# Altium schematic symbol library Resistor SMD.SchLib: 98 symbols (part 1 of 2)
Pins are listed as number, name and electrical type; pins without a type are passive.

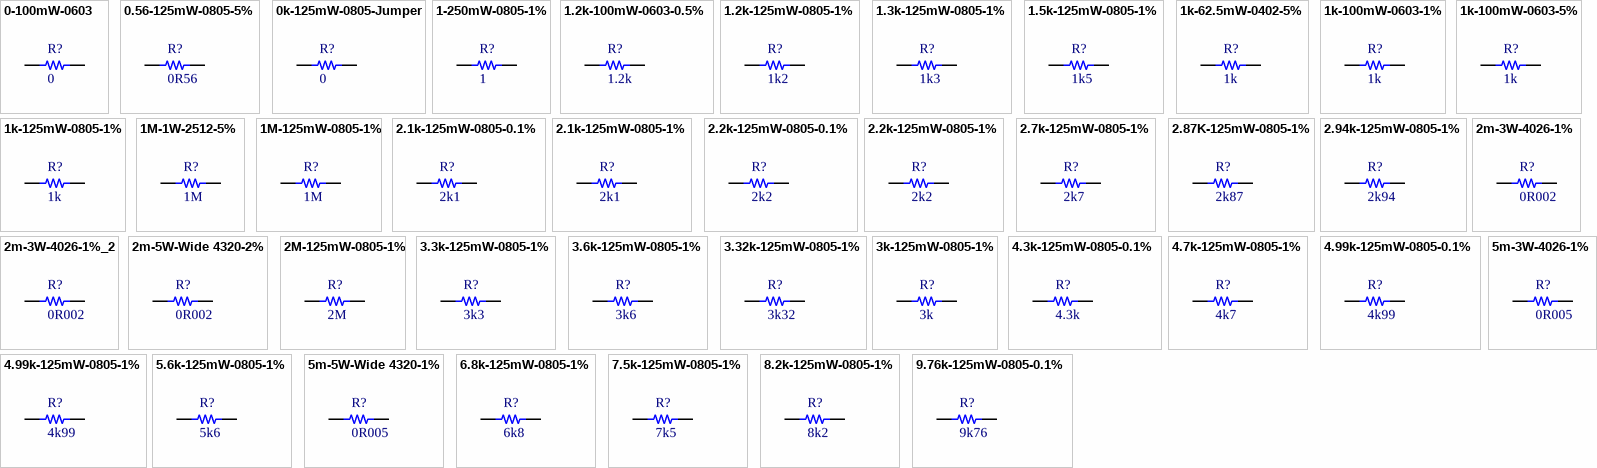
[diagram p0: symbols 0-100mW-0603 to 9.76k-125mW-0805-0.1%]

## 0-100mW-0603
designator R?, comment 0
Resistor, 0 Ohm, 100mW Power Rating, 0603 Package; ManufacturerName: Yageo; ManufacturerReference: AC0603JR-070RL; DistributorName: Digikey; DistributorReference: 311-0.0LECT-ND; InventoryNumber: *; Value: 0; PowerRating: 100mW; PackageReference: 0603 (1608 Metric); Category: Resistor
footprint RES 0603/1608 YAGEO (Chip Capacitor, 2-Leads, Body 1.60x0.80mm, IPC High Density)
pins: 1, 2

## 0.56-125mW-0805-5%
designator R?, comment 0R56
Resistor, 0.56, 125mW Power Rating, 0805 Package; ManufacturerName: CTS Resistor Products; ManufacturerReference: 73L3R56J; InventoryNumber: RES002; Value: 0.56 Ohm; PowerRating: 125mWatt; Other: 5%; DistributorName: Digikey; DistributorReference: 73L3R56JCT-ND; PackageReference: 0805; Category: Resistor
footprint RES 0805/2012 (Chip Resistor, 2-Leads, Body 2.00x1.25mm, IPC Medium Density)
footprint RES 0805/2012 RF (Chip Resistor, 2-Leads, Body 2.00x1.25mm, IPC High Density)
pins: 1, 2

## 0k-125mW-0805-Jumper
designator R?, comment 0
Resistor, 0 , 125mW Power Rating, 0805 Package; ManufacturerName: Rohm Semiconductor; ManufacturerReference: MCR10EZPJ000; InventoryNumber: RES001; Value: 0 Ohm; PowerRating: 125mWatt; Other: JUMPER; DistributorName: Digikey; DistributorReference: RHM0.0ARCT-ND; PackageReference: 0805; Category: Resistor
footprint RES 0805/2012 (Chip Resistor, 2-Leads, Body 2.00x1.25mm, IPC Medium Density)
footprint RES 0805/2012 RF (Chip Resistor, 2-Leads, Body 2.00x1.25mm, IPC High Density)
pins: 1, 2

## 1-250mW-0805-1%
designator R?, comment 1
Resistor, 1, 250mW Power Rating, 0805 Package; ManufacturerName: Rohm Semiconductor; ManufacturerReference: MCR10EZHFL1R00; InventoryNumber: RES003; Value: 1 Ohm; PowerRating: 250mWatt; Other: 1%; DistributorName: Digikey; DistributorReference: RHM1.00CCT-ND; PackageReference: 0805; Category: Resistor
footprint RES 0805/2012 (Chip Resistor, 2-Leads, Body 2.00x1.25mm, IPC Medium Density)
footprint RES 0805/2012 RF (Chip Resistor, 2-Leads, Body 2.00x1.25mm, IPC High Density)
pins: 1, 2

## 1.2k-100mW-0603-0.5%
designator R?, comment 1.2k
Resistor, 1.2k, 0.1W Power Rating, 0603/1608 Package; ManufacturerName: Yageo; ManufacturerReference: RT0603DRE071K2L; Value: 1.2k Ohm; Other: 0.5%; DistributorName: Digikey; DistributorReference: 311-2461-2-ND; InventoryNumber: *; PowerRating: 0.1W; PackageReference: 0603 (1608 Metric); Category: Resistor
footprint RES 0603/1608 YAGEO (Chip Capacitor, 2-Leads, Body 1.60x0.80mm, IPC High Density)
pins: 1, 2

## 1.2k-125mW-0805-1%
designator R?, comment 1k2
Resistor, 1.2k, 125mW Power Rating, 0805 Package; ManufacturerName: Rohm Semiconductor; ManufacturerReference: MCR10EZHF1201; InventoryNumber: RES021; Value: 1.2k Ohm; PowerRating: 125mWatt; Other: 1%; DistributorName: Digikey; DistributorReference: RHM1.20KCTR-ND; PackageReference: 0805; Category: Resistor
footprint RES 0805/2012 (Chip Resistor, 2-Leads, Body 2.00x1.25mm, IPC Medium Density)
footprint RES 0805/2012 RF (Chip Resistor, 2-Leads, Body 2.00x1.25mm, IPC High Density)
pins: 1, 2

## 1.3k-125mW-0805-1%
designator R?, comment 1k3
Resistor, 1.3k, 125mW Power Rating, 0805 Package; ManufacturerName: Rohm Semiconductor; ManufacturerReference: MCR10EZHF1301; InventoryNumber: RES022; Value: 1.3k Ohm; PowerRating: 125mWatt; Other: 1%; DistributorName: Digikey; DistributorReference: RHM1.30KCTR-ND; PackageReference: 0805; Category: Resistor
footprint RES 0805/2012 (Chip Resistor, 2-Leads, Body 2.00x1.25mm, IPC Medium Density)
footprint RES 0805/2012 RF (Chip Resistor, 2-Leads, Body 2.00x1.25mm, IPC High Density)
pins: 1, 2

## 1.5k-125mW-0805-1%
designator R?, comment 1k5
Resistor, 1.5k, 125mW Power Rating, 0805 Package; ManufacturerName: Vishay Dale; ManufacturerReference: CRCW08051K50FKEA; InventoryNumber: RES023; Value: 1.5k Ohm; PowerRating: 125mWatt; Other: 1%; DistributorName: Digikey; DistributorReference: 541-1.50KCCT-ND; PackageReference: 0805; Category: Resistor
footprint RES 0805/2012 (Chip Resistor, 2-Leads, Body 2.00x1.25mm, IPC Medium Density)
footprint RES 0805/2012 RF (Chip Resistor, 2-Leads, Body 2.00x1.25mm, IPC High Density)
pins: 1, 2

## 1k-62.5mW-0402-5%
designator R?, comment 1k
Resistor, 1k, 62.5mW Power Rating, 0402 Package; ManufacturerName: Yageo; ManufacturerReference: ERA-6AEB301V; InventoryNumber: RES204; Value: 1k Ohm; PowerRating: 62.5mWatt; Other: 5%; DistributorName: Digikey; DistributorReference: 311-1.0KJRCT-ND; PackageReference: 0402; Category: Resistor
footprint RES 0402/1005 (Chip Resistor, 2-Leads, Body 1.0x0.5mm, IPC Medium Density)
footprint RES 0402/1005 RF (Chip Resistor, 2-Leads, Body 1.0x0.5mm, IPC High Density)
pins: 1, 2

## 1k-100mW-0603-1%
designator R?, comment 1k
Resistor, 1k, 100mW Power Rating, 0603 Package; ManufacturerName: Yageo; ManufacturerReference: ERA-6AEB101V; InventoryNumber: RES203; Value: 1k Ohm; PowerRating: 100mWatt; Other: 5%; DistributorName: Digikey; DistributorReference: 311-1.0KGRCT-ND; PackageReference: 0603
footprint RES 0603/1608 (Chip Resistor, 2-Leads, Body 1.60x0.80mm, IPC Medium Density)
footprint RES 0603/1608 RF (Chip Resistor, 2-Leads, Body 1.60x0.80mm, IPC High Density)
pins: 1, 2

## 1k-100mW-0603-5%
designator R?, comment 1k
Resistor, 1k, 100mW Power Rating, 0603 Package; ManufacturerName: Yageo; ManufacturerReference: ERA-6AEB101V; InventoryNumber: RES203; Value: 1k Ohm; PowerRating: 100mWatt; Other: 5%; DistributorName: Digikey; DistributorReference: 311-1.0KGRCT-ND; PackageReference: 0603; Category: Resistor
footprint RES 0603/1608 (Chip Resistor, 2-Leads, Body 1.60x0.80mm, IPC Medium Density)
footprint RES 0603/1608 RF (Chip Resistor, 2-Leads, Body 1.60x0.80mm, IPC High Density)
pins: 1, 2

## 1k-125mW-0805-1%
designator R?, comment 1k
Resistor, 1k, 125mW Power Rating, 0805 Package; ManufacturerName: Rohm Semiconductor; ManufacturerReference: MCR10EZHF1001; InventoryNumber: RES020; Value: 1k Ohm; PowerRating: 125mWatt; Other: 1%; DistributorName: Digikey; DistributorReference: RHM1.00KCCT-ND; PackageReference: 0805; Category: Resistor
footprint RES 0805/2012 (Chip Resistor, 2-Leads, Body 2.00x1.25mm, IPC Medium Density)
footprint RES 0805/2012 RF (Chip Resistor, 2-Leads, Body 2.00x1.25mm, IPC High Density)
pins: 1, 2

## 1M-1W-2512-5%
designator R?, comment 1M
Resistor, 1M, 1W Power Rating, 2512 Package; ManufacturerName: TE Connectivity Passive Product; ManufacturerReference: 35201M0JT; InventoryNumber: RES115; Value: 1M Ohm; PowerRating: 1Watt; Other: 5%; DistributorName: Digikey; DistributorReference: A102508CT-ND; PackageReference: 2512; Category: Resistor
footprint RES 2512/6432 (Chip Resistor, 2-Leads, Body 6.40x3.20mm, IPC High Density)
pins: 1, 2

## 1M-125mW-0805-1%
designator R?, comment 1M
Resistor, 1M, 125mW Power Rating, 0805 Package; ManufacturerName: Vishay Dale; ManufacturerReference: CRCW08051M00FKEA; InventoryNumber: RES101; Value: 1M Ohm; PowerRating: 125mWatt; Other: 1%; DistributorName: Digikey; DistributorReference: 541-1.00MCCT-ND; PackageReference: 0805; Category: Resistor
footprint RES 0805/2012 (Chip Resistor, 2-Leads, Body 2.00x1.25mm, IPC Medium Density)
footprint RES 0805/2012 RF (Chip Resistor, 2-Leads, Body 2.00x1.25mm, IPC High Density)
pins: 1, 2

## 2.1k-125mW-0805-0.1%
designator R?, comment 2k1
Resistor, 2.1k, 125mW Power Rating, 0805 Package; ManufacturerName: Panasonic Electronic Components; ManufacturerReference: ERA-6AEB2101V; InventoryNumber: RES105; Value: 2.1k Ohm; PowerRating: 125mWatt; Other: 0.1% 25ppm/C; DistributorName: Digikey; DistributorReference: P2.1KDACT-ND; PackageReference: 0805; Category: Resistor
footprint RES 0805/2012 (Chip Resistor, 2-Leads, Body 2.00x1.25mm, IPC Medium Density)
footprint RES 0805/2012 RF (Chip Resistor, 2-Leads, Body 2.00x1.25mm, IPC High Density)
pins: 1, 2

## 2.1k-125mW-0805-1%
designator R?, comment 2k1
Resistor, 2.1k, 125mW Power Rating, 0805 Package; ManufacturerName: Rohm Semiconductor; ManufacturerReference: MCR10EZHF2101; InventoryNumber: RES024; Value: 2.1k Ohm; PowerRating: 125mWatt; Other: 1%; DistributorName: Digikey; DistributorReference: RHM2.10KCTR-ND; PackageReference: 0805; Category: Resistor
footprint RES 0805/2012 (Chip Resistor, 2-Leads, Body 2.00x1.25mm, IPC Medium Density)
footprint RES 0805/2012 RF (Chip Resistor, 2-Leads, Body 2.00x1.25mm, IPC High Density)
pins: 1, 2

## 2.2k-125mW-0805-0.1%
designator R?, comment 2k2
Resistor, 2.2k, 125mW Power Rating, 0805 Package; ManufacturerName: Panasonic Electronic Components; ManufacturerReference: ERA-6AEB222V; InventoryNumber: RES106; Value: 2.2k Ohm; PowerRating: 125mWatt; Other: 0.1% 25ppm/C; DistributorName: Digikey; DistributorReference: P2.2KDACT-ND; PackageReference: 0805; Category: Resistor
footprint RES 0805/2012 (Chip Resistor, 2-Leads, Body 2.00x1.25mm, IPC Medium Density)
footprint RES 0805/2012 RF (Chip Resistor, 2-Leads, Body 2.00x1.25mm, IPC High Density)
pins: 1, 2

## 2.2k-125mW-0805-1%
designator R?, comment 2k2
Resistor, 2.2k, 125mW Power Rating, 0805 Package; ManufacturerName: Rohm Semiconductor; ManufacturerReference: MCR10EZPF2201; InventoryNumber: RES025; Value: 2.2k Ohm; PowerRating: 125mWatt; Other: 1%; DistributorName: Digikey; DistributorReference: RHM2.20KCRCT-ND; PackageReference: 0805; Category: Resistor
footprint RES 0805/2012 (Chip Resistor, 2-Leads, Body 2.00x1.25mm, IPC Medium Density)
footprint RES 0805/2012 RF (Chip Resistor, 2-Leads, Body 2.00x1.25mm, IPC High Density)
pins: 1, 2

## 2.7k-125mW-0805-1%
designator R?, comment 2k7
Resistor, 2.7k, 125mW Power Rating, 0805 Package; ManufacturerName: Rohm Semiconductor; ManufacturerReference: MCR10EZPF2701; InventoryNumber: RES026; Value: 2.7k Ohm; PowerRating: 125mWatt; Other: 1%; DistributorName: Digikey; DistributorReference: RHM2.70KCRTR-ND; PackageReference: 0805; Category: Resistor
footprint RES 0805/2012 (Chip Resistor, 2-Leads, Body 2.00x1.25mm, IPC Medium Density)
footprint RES 0805/2012 RF (Chip Resistor, 2-Leads, Body 2.00x1.25mm, IPC High Density)
pins: 1, 2

## 2.87K-125mW-0805-1%
designator R?, comment 2k87
Resistor, 2.87k, 125mW Power Rating, 0805 Package; ManufacturerName: Vishay Dale; ManufacturerReference: ERA-6AEB2101V; InventoryNumber: RES205; Value: 2.87k Ohm; PowerRating: 125mWatt; Other: 1%; DistributorName: Digikey; DistributorReference: 541-2.87KCCT-ND; PackageReference: 0805; Category: Resistor
footprint RES 0805/2012 (Chip Resistor, 2-Leads, Body 2.00x1.25mm, IPC Medium Density)
footprint RES 0805/2012 RF (Chip Resistor, 2-Leads, Body 2.00x1.25mm, IPC High Density)
pins: 1, 2

## 2.94k-125mW-0805-1%
designator R?, comment 2k94
Resistor, 2.94k, 125mW Power Rating, 0805 Package; ManufacturerName: Rohm Semiconductor; ManufacturerReference: MCR10EZHF2941; InventoryNumber: RES027; Value: 2.94k Ohm; PowerRating: 125mWatt; Other: 1%; DistributorName: Digikey; DistributorReference: RHM2.94KCTR-ND; PackageReference: 0805; Category: Resistor
footprint RES 0805/2012 (Chip Resistor, 2-Leads, Body 2.00x1.25mm, IPC Medium Density)
footprint RES 0805/2012 RF (Chip Resistor, 2-Leads, Body 2.00x1.25mm, IPC High Density)
pins: 1, 2

## 2m-3W-4026-1%
designator R?, comment 0R002
Resistor, 2m, 3W Power Rating, 4026 Package; ManufacturerName: Vishay; ManufacturerReference: WSL40262L000FEB; InventoryNumber: RES121; Value: 2m Ohm; PowerRating: 3Watt; Other: 1%; DistributorName: Digikey; DistributorReference: WSLR-.002CT-ND; PackageReference: 4026; Category: Resistor
footprint RES 4026/10166 VISHAY
pins: 1, 2

## 2m-3W-4026-1%_2
designator R?, comment 0R002
Resistor, 2m, 3W Power Rating, 4026 Package; ManufacturerName: Vishay; ManufacturerReference: WSL40262L000FEB; InventoryNumber: RES213; Value: 2m Ohm; PowerRating: 3Watt; Other: 1%, Chip resistor; DistributorName: Digikey; DistributorReference: WSLR-.002CT-ND; PackageReference: 4026; Category: Resistor
footprint RES 4026/10166 VISHAY
pins: 1, 2

## 2m-5W-Wide 4320-2%
designator R?, comment 0R002
Resistor, 2m, 5W Power Rating, Wide 4320 Package; ManufacturerName: Ohmite; ManufacturerReference: FCSL110R002GER; InventoryNumber: RES206; Value: 2m Ohm; PowerRating: 5Watt; Other: 2%; DistributorName: Digikey; DistributorReference: FCSL110R002GERCT-ND; PackageReference: Wide 4320; Category: Resistor
footprint RES WIDE 4320/ 11050 Ohmite (Chip Resistor, 2-Leads, Body 5.00x11.00mm, IPC High Density)
pins: 1, 2

## 2M-125mW-0805-1%
designator R?, comment 2M
Resistor, 2M, 125mW Power Rating, 0805 Package; ManufacturerName: Rohm Semiconductor; ManufacturerReference: KTR10EZPF2004; InventoryNumber: RES102; Value: 2M Ohm; PowerRating: 125mWatt; Other: 1%; DistributorName: Digikey; DistributorReference: RHM2.00MAHCT-ND; PackageReference: 0805; Category: Resistor
footprint RES 0805/2012 (Chip Resistor, 2-Leads, Body 2.00x1.25mm, IPC Medium Density)
footprint RES 0805/2012 RF (Chip Resistor, 2-Leads, Body 2.00x1.25mm, IPC High Density)
pins: 1, 2

## 3.3k-125mW-0805-1%
designator R?, comment 3k3
Resistor, 3.3k, 125mW Power Rating, 0805 Package; ManufacturerName: Rohm Semiconductor; ManufacturerReference: MCR10EZHF3301; InventoryNumber: RES028; Value: 3.3k Ohm; PowerRating: 125mWatt; Other: 1%; DistributorName: Digikey; DistributorReference: RHM3.30KCTR-ND; PackageReference: 0805; Category: Resistor
footprint RES 0805/2012 (Chip Resistor, 2-Leads, Body 2.00x1.25mm, IPC Medium Density)
footprint RES 0805/2012 RF (Chip Resistor, 2-Leads, Body 2.00x1.25mm, IPC High Density)
pins: 1, 2

## 3.6k-125mW-0805-1%
designator R?, comment 3k6
Resistor, 3.6k, 125mW Power Rating, 0805 Package; ManufacturerName: Rohm Semiconductor; ManufacturerReference: MCR10EZPF3601; InventoryNumber: RES030; Value: 3.6k Ohm; PowerRating: 125mWatt; Other: 1%; DistributorName: Digikey; DistributorReference: RHM3.60KCRCT-ND; PackageReference: 0805; Category: Resistor
footprint RES 0805/2012 (Chip Resistor, 2-Leads, Body 2.00x1.25mm, IPC Medium Density)
footprint RES 0805/2012 RF (Chip Resistor, 2-Leads, Body 2.00x1.25mm, IPC High Density)
pins: 1, 2

## 3.32k-125mW-0805-1%
designator R?, comment 3k32
Resistor, 3.32k, 125mW Power Rating, 0805 Package; ManufacturerName: Rohm Semiconductor; ManufacturerReference: MCR10EZPF3321; InventoryNumber: RES029; Value: 3.32k Ohm; PowerRating: 125mWatt; Other: 1%; DistributorName: Digikey; DistributorReference: RHM3.32KCRTR-ND; PackageReference: 0805; Category: Resistor
footprint RES 0805/2012 (Chip Resistor, 2-Leads, Body 2.00x1.25mm, IPC Medium Density)
footprint RES 0805/2012 RF (Chip Resistor, 2-Leads, Body 2.00x1.25mm, IPC High Density)
pins: 1, 2

## 3k-125mW-0805-1%
designator R?, comment 3k
Resistor, 3k, 125mW Power Rating, 0805 Package; ManufacturerName: Panasonic Electronic Components; ManufacturerReference: ERJ-6ENF3001V; InventoryNumber: RES123; Value: 3k Ohm; PowerRating: 125mWatt; Other: 1%; DistributorName: Digikey; DistributorReference: P3.0KCCT-ND; PackageReference: 0805; Category: Resistor
footprint RES 0805/2012 (Chip Resistor, 2-Leads, Body 2.00x1.25mm, IPC Medium Density)
footprint RES 0805/2012 RF (Chip Resistor, 2-Leads, Body 2.00x1.25mm, IPC High Density)
pins: 1, 2

## 4.3k-125mW-0805-0.1%
designator R?, comment 4.3k
Resistor, 4.3k, 125mW Power Rating, 0805 Package; ManufacturerName: Panasonic Electronic Components; ManufacturerReference: ERA-6AEB432V; InventoryNumber: RES107; Value: 4.3k Ohm; PowerRating: 125mWatt; Other: 0.1% 25ppm/C; DistributorName: Digikey; DistributorReference: P4.3KDACT-ND; PackageReference: 0805; Category: Resistor
footprint RES 0805/2012 (Chip Resistor, 2-Leads, Body 2.00x1.25mm, IPC Medium Density)
footprint RES 0805/2012 RF (Chip Resistor, 2-Leads, Body 2.00x1.25mm, IPC High Density)
pins: 1, 2

## 4.7k-125mW-0805-1%
designator R?, comment 4k7
Resistor, 4.7k, 125mW Power Rating, 0805 Package; ManufacturerName: Rohm Semiconductor; ManufacturerReference: MCR10ERTF4701; InventoryNumber: RES126; Value: 4.7k Ohm; PowerRating: 125mWatt; Other: 1%; DistributorName: Digikey; DistributorReference: RHM4.70KCHCT-ND; PackageReference: 0805; Category: Resistor
footprint RES 0805/2012 (Chip Resistor, 2-Leads, Body 2.00x1.25mm, IPC Medium Density)
footprint RES 0805/2012 RF (Chip Resistor, 2-Leads, Body 2.00x1.25mm, IPC High Density)
pins: 1, 2

## 4.99k-125mW-0805-0.1%
designator R?, comment 4k99
Resistor, 4.99k, 125mW Power Rating, 0805 Package; ManufacturerName: Vishay Dale; ManufacturerReference: ERA-6AEB4991V; InventoryNumber: RES108; Value: 4.99k Ohm; PowerRating: 125mWatt; Other: 0.1% 25ppm/C; DistributorName: Digikey; DistributorReference: P4.99KDACT-ND; PackageReference: 0805; Category: Resistor
footprint RES 0805/2012 (Chip Resistor, 2-Leads, Body 2.00x1.25mm, IPC Medium Density)
footprint RES 0805/2012 RF (Chip Resistor, 2-Leads, Body 2.00x1.25mm, IPC High Density)
pins: 1, 2

## 4.99k-125mW-0805-1%
designator R?, comment 4k99
Resistor, 4.99k, 125mW Power Rating, 0805 Package; ManufacturerName: Rohm Semiconductor; ManufacturerReference: MCR10EZPF4991; InventoryNumber: RES031; Value: 4.99k Ohm; PowerRating: 125mWatt; Other: 1%; DistributorName: Digikey; DistributorReference: RHM4.99KCRCT-ND; PackageReference: 0805; Category: Resistor
footprint RES 0805/2012 (Chip Resistor, 2-Leads, Body 2.00x1.25mm, IPC Medium Density)
footprint RES 0805/2012 RF (Chip Resistor, 2-Leads, Body 2.00x1.25mm, IPC High Density)
pins: 1, 2

## 5.6k-125mW-0805-1%
designator R?, comment 5k6
Resistor, 5.6k, 125mW Power Rating, 0805 Package; ManufacturerName: Stackpole Electronics Inc.; ManufacturerReference: RMCF0805FT5K60; InventoryNumber: RES032; Value: 5.6k Ohm; PowerRating: 125mWatt; Other: 1%; DistributorName: Digikey; DistributorReference: RMCF0805FT5K60CT-ND; PackageReference: 0805; Category: Resistor
footprint RES 0805/2012 (Chip Resistor, 2-Leads, Body 2.00x1.25mm, IPC Medium Density)
footprint RES 0805/2012 RF (Chip Resistor, 2-Leads, Body 2.00x1.25mm, IPC High Density)
pins: 1, 2

## 5m-3W-4026-1%
designator R?, comment 0R005
Resistor, 5m, 3W Power Rating, 4026 Package; ManufacturerName: Vishay Dale; ManufacturerReference: WSL40265L000FEB; InventoryNumber: RES122; Value: 5m Ohm; PowerRating: 3Watt; Other: 1%; DistributorName: Digikey; DistributorReference: WSLR-.005CT-ND; PackageReference: 4026; Category: Resistor
footprint RES 4026/10166 VISHAY
pins: 1, 2

## 5m-5W-Wide 4320-1%
designator R?, comment 0R005
Resistor, 5m, 5W Power Rating, Wide 4320 Package; ManufacturerName: Ohmite; ManufacturerReference: FCSL110R005FER; InventoryNumber: RES207; Value: 5m Ohm; PowerRating: 5Watt; Other: 1%; DistributorName: Digikey; DistributorReference: FCSL110R005FERCT-ND; PackageReference: Wide 4320; Category: Resistor
footprint RES WIDE 4320/ 11050 Ohmite (Chip Resistor, 2-Leads, Body 5.00x11.00mm, IPC High Density)
pins: 1, 2

## 6.8k-125mW-0805-1%
designator R?, comment 6k8
Resistor, 6.8k, 125mW Power Rating, 0805 Package; ManufacturerName: Rohm Semiconductor; ManufacturerReference: MCR10EZHF6801; InventoryNumber: RES033; Value: 6.8k Ohm; PowerRating: 125mWatt; Other: 1%; DistributorName: Digikey; DistributorReference: RHM6.80KCCT-ND; PackageReference: 0805; Category: Resistor
footprint RES 0805/2012 (Chip Resistor, 2-Leads, Body 2.00x1.25mm, IPC Medium Density)
footprint RES 0805/2012 RF (Chip Resistor, 2-Leads, Body 2.00x1.25mm, IPC High Density)
pins: 1, 2

## 7.5k-125mW-0805-1%
designator R?, comment 7k5
Resistor, 7.5k, 125mW Power Rating, 0805 Package; ManufacturerName: Stackpole Electronics Inc.; ManufacturerReference: RMCF0805FT7K50; InventoryNumber: RES034; Value: 7.5k Ohm; PowerRating: 125mWatt; Other: 1%; DistributorName: Digikey; DistributorReference: RMCF0805FT7K50CT-ND; PackageReference: 0805; Category: Resistor
footprint RES 0805/2012 (Chip Resistor, 2-Leads, Body 2.00x1.25mm, IPC Medium Density)
footprint RES 0805/2012 RF (Chip Resistor, 2-Leads, Body 2.00x1.25mm, IPC High Density)
pins: 1, 2

## 8.2k-125mW-0805-1%
designator R?, comment 8k2
Resistor, 8.2k, 125mW Power Rating, 0805 Package; ManufacturerName: Rohm Semiconductor; ManufacturerReference: MCR10EZHF8201; InventoryNumber: RES035; Value: 8.2k Ohm; PowerRating: 125mWatt; Other: 1%; DistributorName: Digikey; DistributorReference: RHM8.20KCTR-ND; PackageReference: 0805; Category: Resistor
footprint RES 0805/2012 (Chip Resistor, 2-Leads, Body 2.00x1.25mm, IPC Medium Density)
footprint RES 0805/2012 RF (Chip Resistor, 2-Leads, Body 2.00x1.25mm, IPC High Density)
pins: 1, 2

## 9.76k-125mW-0805-0.1%
designator R?, comment 9k76
Resistor, 9.76k, 125mW Power Rating, 0805 Package; ManufacturerName: Panasonic Electronic Components; ManufacturerReference: ERA-6AEB9761V; InventoryNumber: RES109; Value: 9.76k Ohm; PowerRating: 125mWatt; Other: 0.1% 25ppm/C; DistributorName: Digikey; DistributorReference: P9.76KDACT-ND; PackageReference: 0805; Category: Resistor
footprint RES 0805/2012 (Chip Resistor, 2-Leads, Body 2.00x1.25mm, IPC Medium Density)
footprint RES 0805/2012 RF (Chip Resistor, 2-Leads, Body 2.00x1.25mm, IPC High Density)
pins: 1, 2

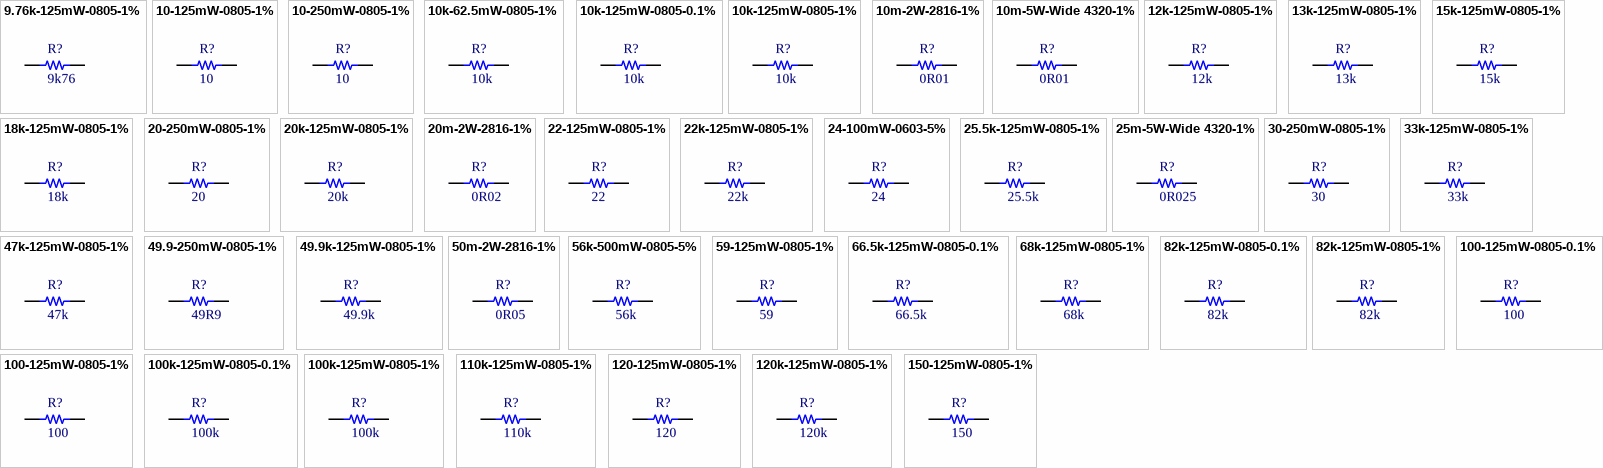
[diagram p1: symbols 9.76k-125mW-0805-1% to 150-125mW-0805-1%]

## 9.76k-125mW-0805-1%
designator R?, comment 9k76
Resistor, 9.76k, 125mW Power Rating, 0805 Package; ManufacturerName: Vishay Dale; ManufacturerReference: CRCW08059K76FKEA; InventoryNumber: RES036; Value: 9.76k Ohm; PowerRating: 125mWatt; Other: 1%; DistributorName: Digikey; DistributorReference: 541-9.76KCCT-ND; PackageReference: 0805; Category: Resistor
footprint RES 0805/2012 (Chip Resistor, 2-Leads, Body 2.00x1.25mm, IPC Medium Density)
footprint RES 0805/2012 RF (Chip Resistor, 2-Leads, Body 2.00x1.25mm, IPC High Density)
pins: 1, 2

## 10-125mW-0805-1%
designator R?, comment 10
Resistor, 10, 125mW Power Rating, 0805 Package; ManufacturerName: Rohm Semiconductor; ManufacturerReference: MCR10EZHF10R0; InventoryNumber: RES005; Value: 10 Ohm; PowerRating: 125mWatt; Other: 1%; DistributorName: Digikey; DistributorReference: RHM10.0CCT-ND; PackageReference: 0805; Category: Resistor
footprint RES 0805/2012 (Chip Resistor, 2-Leads, Body 2.00x1.25mm, IPC Medium Density)
footprint RES 0805/2012 RF (Chip Resistor, 2-Leads, Body 2.00x1.25mm, IPC High Density)
pins: 1, 2

## 10-250mW-0805-1%
designator R?, comment 10
Resistor, 10, 250mW Power Rating, 0805 Package; ManufacturerName: Stackpole Electronics Inc.; ManufacturerReference: RNCP0805FTD10R0; InventoryNumber: RES004; Value: 10 Ohm; PowerRating: 250mWatt; Other: 1%; DistributorName: Digikey; DistributorReference: RNCP0805FTD10R0CT-ND; PackageReference: 0805; Category: Resistor
footprint RES 0805/2012 (Chip Resistor, 2-Leads, Body 2.00x1.25mm, IPC Medium Density)
footprint RES 0805/2012 RF (Chip Resistor, 2-Leads, Body 2.00x1.25mm, IPC High Density)
pins: 1, 2

## 10k-62.5mW-0805-1%
designator R?, comment 10k
Resistor, 10k, 62.5mW Power Rating, 0805 Package; ManufacturerName: Rohm Semiconductor; ManufacturerReference: MCR01MRTF1002; InventoryNumber: RES037; Value: 10k Ohm; PowerRating: 62.5mWatt; Other: 1%; DistributorName: Digikey; DistributorReference: RHM10.0KCDDKR-ND; PackageReference: 0805; Category: Resistor
footprint RES 0805/2012 (Chip Resistor, 2-Leads, Body 2.00x1.25mm, IPC Medium Density)
footprint RES 0805/2012 RF (Chip Resistor, 2-Leads, Body 2.00x1.25mm, IPC High Density)
pins: 1, 2

## 10k-125mW-0805-0.1%
designator R?, comment 10k
Resistor, 10k, 125mW Power Rating, 0805 Package; ManufacturerName: Panasonic Electronic Components; ManufacturerReference: ERA-6AEB103V; InventoryNumber: RES110; Value: 10k Ohm; PowerRating: 125mWatt; Other: 0.1% 25ppm/C; DistributorName: Digikey; DistributorReference: P10KDACT-ND; PackageReference: 0805; Category: Resistor
footprint RES 0805/2012 (Chip Resistor, 2-Leads, Body 2.00x1.25mm, IPC Medium Density)
footprint RES 0805/2012 RF (Chip Resistor, 2-Leads, Body 2.00x1.25mm, IPC High Density)
pins: 1, 2

## 10k-125mW-0805-1%
designator R?, comment 10k
Resistor, 10k, 125mW Power Rating, 0805 Package; ManufacturerName: Rohm Semiconductor; ManufacturerReference: MCR10EZPF1002; InventoryNumber: RES038; Value: 10k Ohm; PowerRating: 125mWatt; Other: 1%; DistributorName: Digikey; DistributorReference: RHM10.0KCRCT-ND; PackageReference: 0805; Category: Resistor
footprint RES 0805/2012 (Chip Resistor, 2-Leads, Body 2.00x1.25mm, IPC Medium Density)
footprint RES 0805/2012 RF (Chip Resistor, 2-Leads, Body 2.00x1.25mm, IPC High Density)
pins: 1, 2

## 10m-2W-2816-1%
designator R?, comment 0R01
Resistor, 10m, 2W Power Rating, 2816 Package; ManufacturerName: Vishay Dale; ManufacturerReference: WSL2816R0100FEH; InventoryNumber: RES208; Value: 10m Watt; PowerRating: 2Watt; Other: 1%; DistributorName: Digikey; DistributorReference: WSLK-.01CT-ND; PackageReference: 2816; Category: Resistor
footprint RES 2816/7142 VISHAY (Chip Resistor, 2-Leads, Body 7.10x4.20mm, IPC High Density)
pins: 1, 2

## 10m-5W-Wide 4320-1%
designator R?, comment 0R01
Resistor, 10m, 5W Power Rating, Wide 4320 Package; ManufacturerName: Ohmite; ManufacturerReference: FCSL110R010FER; InventoryNumber: RES209; Value: 10m Ohm; PowerRating: 5Watt; Other: 1%; DistributorName: Digikey; DistributorReference: FCSL110R010FERCT-ND; PackageReference: Wide 4320; Category: Resistor
footprint RES WIDE 4320/ 11050 Ohmite (Chip Resistor, 2-Leads, Body 5.00x11.00mm, IPC High Density)
pins: 1, 2

## 12k-125mW-0805-1%
designator R?, comment 12k
Resistor, 12k, 125mW Power Rating, 0805 Package; ManufacturerName: Rohm Semiconductor; ManufacturerReference: MCR10EZHF1202; InventoryNumber: RES039; Value: 12k Ohm; PowerRating: 125mWatt; Other: 1%; DistributorName: Digikey; DistributorReference: RHM12.0KCCT-ND; PackageReference: 0805; Category: Resistor
footprint RES 0805/2012 (Chip Resistor, 2-Leads, Body 2.00x1.25mm, IPC Medium Density)
footprint RES 0805/2012 RF (Chip Resistor, 2-Leads, Body 2.00x1.25mm, IPC High Density)
pins: 1, 2

## 13k-125mW-0805-1%
designator R?, comment 13k
Resistor, 13k, 125mW Power Rating, 0805 Package; ManufacturerName: Stackpole Electronics Inc.; ManufacturerReference: RMCF0805FT13K0; InventoryNumber: RES040; Value: 13k Ohm; PowerRating: 125mWatt; Other: 1%; DistributorName: Digikey; DistributorReference: RMCF0805FT13K0CT-ND; PackageReference: 0805; Category: Resistor
footprint RES 0805/2012 (Chip Resistor, 2-Leads, Body 2.00x1.25mm, IPC Medium Density)
footprint RES 0805/2012 RF (Chip Resistor, 2-Leads, Body 2.00x1.25mm, IPC High Density)
pins: 1, 2

## 15k-125mW-0805-1%
designator R?, comment 15k
Resistor, 15k, 125mW Power Rating, 0805 Package; ManufacturerName: Stackpole Electronics Inc.; ManufacturerReference: RMCF0805FT15K0; InventoryNumber: RES041; Value: 15k Ohm; PowerRating: 125mWatt; Other: 1%; DistributorName: Digikey; DistributorReference: RMCF0805FT15K0CT-ND; PackageReference: 0805; Category: Resistor
footprint RES 0805/2012 (Chip Resistor, 2-Leads, Body 2.00x1.25mm, IPC Medium Density)
footprint RES 0805/2012 RF (Chip Resistor, 2-Leads, Body 2.00x1.25mm, IPC High Density)
pins: 1, 2

## 18k-125mW-0805-1%
designator R?, comment 18k
Resistor, 18k, 125mW Power Rating, 0805 Package; ManufacturerName: Rohm Semiconductor; ManufacturerReference: MCR10EZPF1802; InventoryNumber: RES042; Value: 18k Ohm; PowerRating: 125mWatt; Other: 1%; DistributorName: Digikey; DistributorReference: RHM18.0KCRCT-ND; PackageReference: 0805; Category: Resistor
footprint RES 0805/2012 (Chip Resistor, 2-Leads, Body 2.00x1.25mm, IPC Medium Density)
footprint RES 0805/2012 RF (Chip Resistor, 2-Leads, Body 2.00x1.25mm, IPC High Density)
pins: 1, 2

## 20-250mW-0805-1%
designator R?, comment 20
Resistor, 20, 250mW Power Rating, 0805 Package; ManufacturerName: Stackpole Electronics Inc.; ManufacturerReference: RNCP0805FTD20R0; InventoryNumber: RES006; Value: 20 Ohm; PowerRating: 250mWatt; Other: 1%; DistributorName: Digikey; DistributorReference: RNCP0805FTD20R0CT-ND; PackageReference: 0805; Category: Resistor
footprint RES 0805/2012 (Chip Resistor, 2-Leads, Body 2.00x1.25mm, IPC Medium Density)
footprint RES 0805/2012 RF (Chip Resistor, 2-Leads, Body 2.00x1.25mm, IPC High Density)
pins: 1, 2

## 20k-125mW-0805-1%
designator R?, comment 20k
Resistor, 20k, 125mW Power Rating, 0805 Package; ManufacturerName: Rohm Semiconductor; ManufacturerReference: MCR10EZPF2002; InventoryNumber: RES043; Value: 20k Ohm; PowerRating: 125mWatt; Other: 1%; DistributorName: Digikey; DistributorReference: RHM20.0KCRCT-ND; PackageReference: 0805; Category: Resistor
footprint RES 0805/2012 (Chip Resistor, 2-Leads, Body 2.00x1.25mm, IPC Medium Density)
footprint RES 0805/2012 RF (Chip Resistor, 2-Leads, Body 2.00x1.25mm, IPC High Density)
pins: 1, 2

## 20m-2W-2816-1%
designator R?, comment 0R02
Resistor, 20m, 2W Power Rating, 2816 Package; ManufacturerName: Vishay Dale; ManufacturerReference: WSL2816R0200FEH; InventoryNumber: RES210; Value: 20m Ohm; PowerRating: 2Watt; Other: 1%; DistributorName: Digikey; DistributorReference: WSLK-.02CT-ND; PackageReference: 2816; Category: Resistor
footprint RES 2816/7142 VISHAY (Chip Resistor, 2-Leads, Body 7.10x4.20mm, IPC High Density)
pins: 1, 2

## 22-125mW-0805-1%
designator R?, comment 22
Resistor, 22, 125mW Power Rating, 0805 Package; ManufacturerName: Yageo; ManufacturerReference: RC0805FR-0722RL; InventoryNumber: RES007; Value: 22 Ohm; PowerRating: 125mWatt; Other: 1%; DistributorName: Digikey; DistributorReference: 311-22.0CRCT-ND; PackageReference: 0805; Category: Resistor
footprint RES 0805/2012 (Chip Resistor, 2-Leads, Body 2.00x1.25mm, IPC Medium Density)
footprint RES 0805/2012 RF (Chip Resistor, 2-Leads, Body 2.00x1.25mm, IPC High Density)
pins: 1, 2

## 22k-125mW-0805-1%
designator R?, comment 22k
Resistor, 22k, 125mW Power Rating, 0805 Package; ManufacturerName: Stackpole Electronics Inc.; ManufacturerReference: RMCF0805FT22K0; InventoryNumber: RES044; Value: 22k Ohm; PowerRating: 125mWatt; Other: 1%; DistributorName: Digikey; DistributorReference: RMCF0805FT22K0CT-ND; PackageReference: 0805; Category: Resistor
footprint RES 0805/2012 (Chip Resistor, 2-Leads, Body 2.00x1.25mm, IPC Medium Density)
footprint RES 0805/2012 RF (Chip Resistor, 2-Leads, Body 2.00x1.25mm, IPC High Density)
pins: 1, 2

## 24-100mW-0603-5%
designator R?, comment 24
Resistor, 24 Ohm , 100mW Power Rating, 0603 Package; ManufacturerName: Yageo; ManufacturerReference: RC0603JR-0724RL; Other: 5%; DistributorName: Digikey; DistributorReference: 311-24GRCT-ND; InventoryNumber: *; Value: 24; PowerRating: 100mW; PackageReference: 0603 (1608 Metric); Category: Resistor
footprint RES 0603/1608 YAGEO (Chip Capacitor, 2-Leads, Body 1.60x0.80mm, IPC High Density)
pins: 1, 2

## 25.5k-125mW-0805-1%
designator R?, comment 25.5k
Resistor, 25.5k, 125mW Power Rating, 0805 Package; ManufacturerName: Yageo; ManufacturerReference: RC0805FR-0725K5L; InventoryNumber: RES045; Value: 25.5k Ohm; PowerRating: 125mWatt; Other: 1%; DistributorName: Digikey; DistributorReference: 311-25.5KCRCT-ND; PackageReference: 0805; Category: Resistor
footprint RES 0805/2012 (Chip Resistor, 2-Leads, Body 2.00x1.25mm, IPC Medium Density)
footprint RES 0805/2012 RF (Chip Resistor, 2-Leads, Body 2.00x1.25mm, IPC High Density)
pins: 1, 2

## 25m-5W-Wide 4320-1%
designator R?, comment 0R025
Resistor, 25m, 5W Power Rating, Wide 4320 Package; ManufacturerName: Ohmite; ManufacturerReference: FCSL110R025FER; InventoryNumber: RES211; Value: 25m Ohm; PowerRating: 5Watt; Other: 1%; DistributorName: Digikey; DistributorReference: FCSL110R025FERCT-ND; PackageReference: Wide 4320; Category: Resistor
footprint RES WIDE 4320/ 11050 Ohmite (Chip Resistor, 2-Leads, Body 5.00x11.00mm, IPC High Density)
pins: 1, 2

## 30-250mW-0805-1%
designator R?, comment 30
Resistor, 30, 250mW Power Rating, 0805 Package; ManufacturerName: Rohm Semiconductor; ManufacturerReference: ESR10EZPF30R0; InventoryNumber: RES008; Value: 30 Ohm; PowerRating: 250mWatt; Other: 1%; DistributorName: Digikey; DistributorReference: RHM30.0AECT-ND; PackageReference: 0805; Category: Resistor
footprint RES 0805/2012 (Chip Resistor, 2-Leads, Body 2.00x1.25mm, IPC Medium Density)
footprint RES 0805/2012 RF (Chip Resistor, 2-Leads, Body 2.00x1.25mm, IPC High Density)
pins: 1, 2

## 33k-125mW-0805-1%
designator R?, comment 33k
Resistor, 33k, 125mW Power Rating, 0805 Package; ManufacturerName: Yageo; ManufacturerReference: RC0805FR-0733KL; InventoryNumber: RES046; Value: 33k Ohm; PowerRating: 125mWatt; Other: 1%; DistributorName: Digikey; DistributorReference: 311-33.0KCRCT-ND; PackageReference: 0805; Category: Resistor
footprint RES 0805/2012 (Chip Resistor, 2-Leads, Body 2.00x1.25mm, IPC Medium Density)
footprint RES 0805/2012 RF (Chip Resistor, 2-Leads, Body 2.00x1.25mm, IPC High Density)
pins: 1, 2

## 47k-125mW-0805-1%
designator R?, comment 47k
Resistor, 47k, 125mW Power Rating, 0805 Package; ManufacturerName: Rohm Semiconductor; ManufacturerReference: MCR10EZPF4702; InventoryNumber: RES047; Value: 47k Ohm; PowerRating: 125mWatt; Other: 1%; DistributorName: Digikey; DistributorReference: RHM47.0KCRCT-ND; PackageReference: 0805; Category: Resistor
footprint RES 0805/2012 (Chip Resistor, 2-Leads, Body 2.00x1.25mm, IPC Medium Density)
footprint RES 0805/2012 RF (Chip Resistor, 2-Leads, Body 2.00x1.25mm, IPC High Density)
pins: 1, 2

## 49.9-250mW-0805-1%
designator R?, comment 49R9
Resistor, 49.9, 250mW Power Rating, 0805 Package; ManufacturerName: Stackpole Electronics Inc.; ManufacturerReference: RNCP0805FTD49R9; InventoryNumber: RES009; Value: 49.9 Ohm; PowerRating: 250mWatt; Other: 1%; DistributorName: Digikey; DistributorReference: RNCP0805FTD49R9CT-ND; PackageReference: 0805; Category: Resistor
footprint RES 0805/2012 (Chip Resistor, 2-Leads, Body 2.00x1.25mm, IPC Medium Density)
footprint RES 0805/2012 RF (Chip Resistor, 2-Leads, Body 2.00x1.25mm, IPC High Density)
pins: 1, 2

## 49.9k-125mW-0805-1%
designator R?, comment 49.9k
Resistor, 49.9k, 125mW Power Rating, 0805 Package; ManufacturerName: Yageo; ManufacturerReference: RC0805FR-0749K9L; InventoryNumber: RES048; Value: 49.9k Ohm; PowerRating: 125mWatt; Other: 1%; DistributorName: Digikey; DistributorReference: 311-49.9KCRCT-ND; PackageReference: 0805; Category: Resistor
footprint RES 0805/2012 (Chip Resistor, 2-Leads, Body 2.00x1.25mm, IPC Medium Density)
footprint RES 0805/2012 RF (Chip Resistor, 2-Leads, Body 2.00x1.25mm, IPC High Density)
pins: 1, 2

## 50m-2W-2816-1%
designator R?, comment 0R05
Resistor, 50m, 2W Power Rating, 2816 Package; ManufacturerName: Vishay Dale; ManufacturerReference: WSL2816R0500FEH; InventoryNumber: RES212; Value: 50m Ohm; PowerRating: 2Watt; Other: 1%; DistributorName: Digikey; DistributorReference: WSLK-.05CT-ND; PackageReference: 2816; Category: Resistor
footprint RES 2816/7142 VISHAY (Chip Resistor, 2-Leads, Body 7.10x4.20mm, IPC High Density)
pins: 1, 2

## 56k-500mW-0805-5%
designator R?, comment 56k
Resistor, 56k, 500mW Power Rating, 0805 Package; ManufacturerName: Panasonic Electronic Components; ManufacturerReference: ERJ-14YJ563U; InventoryNumber: RES049; Value: 56k Ohm; PowerRating: 500mWatt; Other: 5%; DistributorName: Digikey; DistributorReference: P56KVCT-ND; PackageReference: 0805; Category: Resistor
footprint RES 0805/2012 (Chip Resistor, 2-Leads, Body 2.00x1.25mm, IPC Medium Density)
footprint RES 0805/2012 RF (Chip Resistor, 2-Leads, Body 2.00x1.25mm, IPC High Density)
pins: 1, 2

## 59-125mW-0805-1%
designator R?, comment 59
Resistor, 59, 125mW Power Rating, 0805 Package; ManufacturerName: Rohm Semiconductor; ManufacturerReference: KTR10EZPF2004; InventoryNumber: RES202; Value: 59 Ohm; PowerRating: 125mWatt; Other: 1%; DistributorName: Digikey; DistributorReference: RHM59CHCT-ND; PackageReference: 0805; Category: Resistor
footprint RES 0805/2012 (Chip Resistor, 2-Leads, Body 2.00x1.25mm, IPC Medium Density)
footprint RES 0805/2012 RF (Chip Resistor, 2-Leads, Body 2.00x1.25mm, IPC High Density)
pins: 1, 2

## 66.5k-125mW-0805-0.1%
designator R?, comment 66.5k
Resistor, 66.5k, 125mW Power Rating, 0805 Package; ManufacturerName: Panasonic Electronic Components; ManufacturerReference: ERA-6AEB6652V; InventoryNumber: RES111; Value: 66.5k Ohm; PowerRating: 125mWatt; Other: 0.1% 25ppm/C; DistributorName: Digikey; DistributorReference: P66.5KDACT-ND; PackageReference: 0805; Category: Resistor
footprint RES 0805/2012 (Chip Resistor, 2-Leads, Body 2.00x1.25mm, IPC Medium Density)
footprint RES 0805/2012 RF (Chip Resistor, 2-Leads, Body 2.00x1.25mm, IPC High Density)
pins: 1, 2

## 68k-125mW-0805-1%
designator R?, comment 68k
Resistor, 68k, 125mW Power Rating, Package; ManufacturerName: Rohm Semiconductor; ManufacturerReference: MCR10EZPF6802; InventoryNumber: RES050; Value: 68k Ohm; Other: 5%; DistributorName: Digikey; DistributorReference: RHM68.0KCRTR-ND; PowerRating: 125mW; PackageReference: 0805; Category: Resistor
footprint RES 0805/2012 (Chip Resistor, 2-Leads, Body 2.00x1.25mm, IPC Medium Density)
footprint RES 0805/2012 RF (Chip Resistor, 2-Leads, Body 2.00x1.25mm, IPC High Density)
pins: 1, 2

## 82k-125mW-0805-0.1%
designator R?, comment 82k
Resistor, 82k, 125mW Power Rating, 0805 Package; ManufacturerName: Panasonic Electronic Components; ManufacturerReference: ERA-6AEB823V; InventoryNumber: RES112; Value: 82k Ohm; PowerRating: 125mWatt; Other: 0.1% 25ppm/C; DistributorName: Digikey; DistributorReference: P82KDACT-ND; PackageReference: 0805; Category: Resistor
footprint RES 0805/2012 (Chip Resistor, 2-Leads, Body 2.00x1.25mm, IPC Medium Density)
footprint RES 0805/2012 RF (Chip Resistor, 2-Leads, Body 2.00x1.25mm, IPC High Density)
pins: 1, 2

## 82k-125mW-0805-1%
designator R?, comment 82k
Resistor, 82k, 125mW Power Rating, 0805 Package; ManufacturerName: Rohm Semiconductor; ManufacturerReference: MCR10EZHF8202; InventoryNumber: RES051; Value: 82k Ohm; Other: 1%; DistributorName: Digikey; DistributorReference: RHM82.0KCCT-ND; PowerRating: 125mW; PackageReference: 0805; Category: Resistor
footprint RES 0805/2012 (Chip Resistor, 2-Leads, Body 2.00x1.25mm, IPC Medium Density)
footprint RES 0805/2012 RF (Chip Resistor, 2-Leads, Body 2.00x1.25mm, IPC High Density)
pins: 1, 2

## 100-125mW-0805-0.1%
designator R?, comment 100
Resistor, 100, 125mW Power Rating, 0805 Package; ManufacturerName: Panasonic Electronic Components; ManufacturerReference: ERA-6AEB101V; InventoryNumber: RES103; Value: 100 Ohm; PowerRating: 125mWatt; Other: 0.1% 25ppm/C; DistributorName: Digikey; DistributorReference: P100DACT-ND; PackageReference: 0805; Category: Resistor
footprint RES 0805/2012 (Chip Resistor, 2-Leads, Body 2.00x1.25mm, IPC Medium Density)
footprint RES 0805/2012 RF (Chip Resistor, 2-Leads, Body 2.00x1.25mm, IPC High Density)
pins: 1, 2

## 100-125mW-0805-1%
designator R?, comment 100
Resistor, 100, 125mW Power Rating, 0805 Package; ManufacturerName: Rohm Semiconductor; ManufacturerReference: MCR10EZHF1000; InventoryNumber: RES010; Value: 100 Ohm; PowerRating: 125mWatt; Other: 1%; DistributorName: Digikey; DistributorReference: RHM100CCT-ND; PackageReference: 0805; Category: Resistor
footprint RES 0805/2012 (Chip Resistor, 2-Leads, Body 2.00x1.25mm, IPC Medium Density)
footprint RES 0805/2012 RF (Chip Resistor, 2-Leads, Body 2.00x1.25mm, IPC High Density)
pins: 1, 2

## 100k-125mW-0805-0.1%
designator R?, comment 100k
Resistor, 100K, 125mW Power Rating, 0805 Package; ManufacturerName: Panasonic Electronic Components; ManufacturerReference: ERA-6AEB104V; InventoryNumber: RES113; PowerRating: 125mWatt; Other: 0.1% 25ppm/C; DistributorName: Digikey; DistributorReference: P100KDACT-ND; Value: 100k; PackageReference: 0805; Category: Resistor
footprint RES 0805/2012 (Chip Resistor, 2-Leads, Body 2.00x1.25mm, IPC Medium Density)
footprint RES 0805/2012 RF (Chip Resistor, 2-Leads, Body 2.00x1.25mm, IPC High Density)
pins: 1, 2

## 100k-125mW-0805-1%
designator R?, comment 100k
Resistor, 100k, 125mW Power Rating, 0805 Package; ManufacturerName: Rohm Semiconductor; ManufacturerReference: MCR10EZPF1003; InventoryNumber: RES052; Value: 100k Ohm; PowerRating: 125mWatt; Other: 1%; DistributorName: Digikey; DistributorReference: RHM100KCRCT-ND; PackageReference: 0805; Category: Resistor
footprint RES 0805/2012 (Chip Resistor, 2-Leads, Body 2.00x1.25mm, IPC Medium Density)
footprint RES 0805/2012 RF (Chip Resistor, 2-Leads, Body 2.00x1.25mm, IPC High Density)
pins: 1, 2

## 110k-125mW-0805-1%
designator R?, comment 110k
Resistor, 110k, 125mW Power Rating, 0805 Package; ManufacturerName: Rohm Semiconductor; ManufacturerReference: MCR10EZPF1103; InventoryNumber: RES053; Value: 110k Ohm; PowerRating: 125mWatt; Other: 1%; DistributorName: Digikey; DistributorReference: RHM110KCRCT-ND; PackageReference: 0805; Category: Resistor
footprint RES 0805/2012 (Chip Resistor, 2-Leads, Body 2.00x1.25mm, IPC Medium Density)
footprint RES 0805/2012 RF (Chip Resistor, 2-Leads, Body 2.00x1.25mm, IPC High Density)
pins: 1, 2

## 120-125mW-0805-1%
designator R?, comment 120
Resistor, 120, 125mW Power Rating, 0805 Package; ManufacturerName: Rohm Semiconductor; ManufacturerReference: MCR10EZPF1200; InventoryNumber: RES011; Value: 120 Ohms; PowerRating: 125mWatt; Other: 1%; DistributorName: Digikey; DistributorReference: RHM120CRTR-ND; PackageReference: 0805; Category: Resistor
footprint RES 0805/2012 (Chip Resistor, 2-Leads, Body 2.00x1.25mm, IPC Medium Density)
footprint RES 0805/2012 RF (Chip Resistor, 2-Leads, Body 2.00x1.25mm, IPC High Density)
pins: 1, 2

## 120k-125mW-0805-1%
designator R?, comment 120k
Resistor, 120k, 125mW Power Rating, 0805 Package; ManufacturerName: Rohm Semiconductor; ManufacturerReference: MCR10EZHF1203; InventoryNumber: RES054; Value: 120k Ohm; PowerRating: 125mWatt; Other: 1%; DistributorName: Digikey; DistributorReference: RHM120KCTR-ND; PackageReference: 0805; Category: Resistor
footprint RES 0805/2012 (Chip Resistor, 2-Leads, Body 2.00x1.25mm, IPC Medium Density)
footprint RES 0805/2012 RF (Chip Resistor, 2-Leads, Body 2.00x1.25mm, IPC High Density)
pins: 1, 2

## 150-125mW-0805-1%
designator R?, comment 150
Resistor, 150, 125mW Power Rating, 0805 Package; ManufacturerName: Vishay Dale; ManufacturerReference: CRCW0805150RFKEB; InventoryNumber: RES012; Value: 150 Ohm; PowerRating: 125mWatt; Other: 1%; DistributorName: Digikey; DistributorReference: CRCW0805150RFKEB-ND; PackageReference: 0805; Category: Resistor
footprint RES 0805/2012 (Chip Resistor, 2-Leads, Body 2.00x1.25mm, IPC Medium Density)
footprint RES 0805/2012 RF (Chip Resistor, 2-Leads, Body 2.00x1.25mm, IPC High Density)
pins: 1, 2

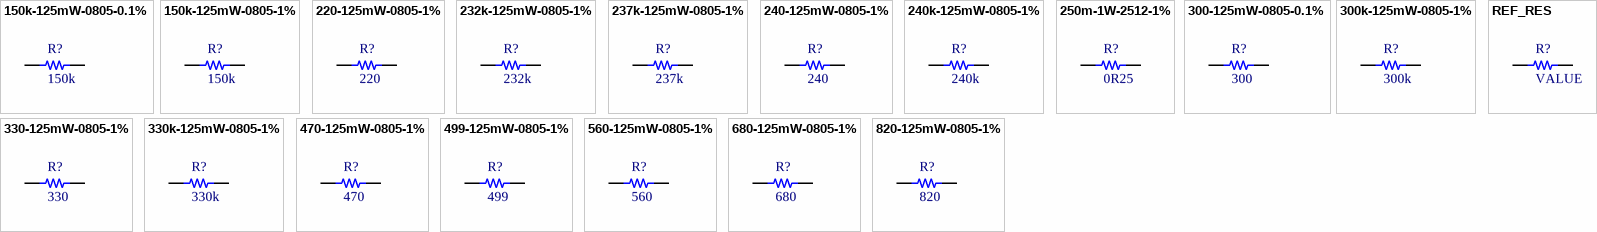
[diagram p2: symbols 150k-125mW-0805-0.1% to REF_RES]

## 150k-125mW-0805-0.1%
designator R?, comment 150k
Resistor, 150k, 125mW Power Rating, 0805 Package; ManufacturerName: Panasonic Electronic Components; ManufacturerReference: ERA-6AEB154V; InventoryNumber: RES114; Value: 150k Ohm; PowerRating: 125mWatt; Other: 0.1% 25ppm/C; DistributorName: Digikey; DistributorReference: P150KDACT-ND; PackageReference: 0805; Category: Resistor
footprint RES 0805/2012 (Chip Resistor, 2-Leads, Body 2.00x1.25mm, IPC Medium Density)
footprint RES 0805/2012 RF (Chip Resistor, 2-Leads, Body 2.00x1.25mm, IPC High Density)
pins: 1, 2

## 150k-125mW-0805-1%
designator R?, comment 150k
Resistor, 150k, 125mW Power Rating, 0805 Package; ManufacturerName: Rohm Semiconductor; ManufacturerReference: MCR10EZPF1503; InventoryNumber: RES055; Value: 150k Ohm; PowerRating: 125mWatt; Other: 1%; DistributorName: Digikey; DistributorReference: RHM150KCRTR-ND; PackageReference: 0805; Category: Resistor
footprint RES 0805/2012 (Chip Resistor, 2-Leads, Body 2.00x1.25mm, IPC Medium Density)
footprint RES 0805/2012 RF (Chip Resistor, 2-Leads, Body 2.00x1.25mm, IPC High Density)
pins: 1, 2

## 220-125mW-0805-1%
designator R?, comment 220
Resistor, 220, 125mW Power Rating, 0805 Package; ManufacturerName: Rohm Semiconductor; ManufacturerReference: MCR10EZHF2200; InventoryNumber: RES013; Value: 220 Ohm; PowerRating: 125mWatt; Other: 1%; DistributorName: Digikey; DistributorReference: RHM220CCT-ND; PackageReference: 0805; Category: Resistor
footprint RES 0805/2012 (Chip Resistor, 2-Leads, Body 2.00x1.25mm, IPC Medium Density)
footprint RES 0805/2012 RF (Chip Resistor, 2-Leads, Body 2.00x1.25mm, IPC High Density)
pins: 1, 2

## 232k-125mW-0805-1%
designator R?, comment 232k
Resistor, 232k, 125mW Power Rating, 0805 Package; ManufacturerName: RC0805FR-07232KL; InventoryNumber: RES056; Value: 232k Ohm; PowerRating: 125mWatt; Other: 1%; DistributorName: Digikey; DistributorReference: 311-232KCRCT-ND; PackageReference: 0805; ManufacturerReference: RC0805FR-07232KL; Category: Resistor
footprint RES 0805/2012 (Chip Resistor, 2-Leads, Body 2.00x1.25mm, IPC Medium Density)
footprint RES 0805/2012 RF (Chip Resistor, 2-Leads, Body 2.00x1.25mm, IPC High Density)
pins: 1, 2

## 237k-125mW-0805-1%
designator R?, comment 237k
Resistor, 237k, 125mW Power Rating, 0805 Package; ManufacturerName: Yageo; ManufacturerReference: RC0805FR-07237KL; InventoryNumber: RES057; Value: 237k Ohm; PowerRating: 125mWatt; Other: 1%; DistributorName: Digikey; DistributorReference: 311-237KCRCT-ND; PackageReference: 0805; Category: Resistor
footprint RES 0805/2012 (Chip Resistor, 2-Leads, Body 2.00x1.25mm, IPC Medium Density)
footprint RES 0805/2012 RF (Chip Resistor, 2-Leads, Body 2.00x1.25mm, IPC High Density)
pins: 1, 2

## 240-125mW-0805-1%
designator R?, comment 240
Resistor, 240, 125mW Power Rating, 0805 Package; ManufacturerName: Panasonic Electronic Components; ManufacturerReference: ERJ-6ENF2400V; InventoryNumber: RES124; Value: 240 Ohm; PowerRating: 125mWatt; Other: 1%; DistributorName: Digikey; DistributorReference: P240CCT-ND; PackageReference: 0805; Category: Resistor
footprint RES 0805/2012 (Chip Resistor, 2-Leads, Body 2.00x1.25mm, IPC Medium Density)
footprint RES 0805/2012 RF (Chip Resistor, 2-Leads, Body 2.00x1.25mm, IPC High Density)
pins: 1, 2

## 240k-125mW-0805-1%
designator R?, comment 240k
Resistor, 240k, 125mW Power Rating, 0805 Package; ManufacturerName: Rohm Semiconductor; ManufacturerReference: MCR10EZHF2403; InventoryNumber: RES058; Value: 240k Ohm; PowerRating: 125mWatt; Other: 1%; DistributorName: Digikey; DistributorReference: RHM240KCTR-ND; PackageReference: 0805; Category: Resistor
footprint RES 0805/2012 (Chip Resistor, 2-Leads, Body 2.00x1.25mm, IPC Medium Density)
footprint RES 0805/2012 RF (Chip Resistor, 2-Leads, Body 2.00x1.25mm, IPC High Density)
pins: 1, 2

## 250m-1W-2512-1%
designator R?, comment 0R25
Resistor, 250m, 1W Power Rating, 2512 Package; ManufacturerName: Vishay Dale; ManufacturerReference: ERA-6AEB154V; InventoryNumber: RES214; Value: 250m Ohm; PowerRating: 1Watt; Other: 1%; DistributorName: Digikey; DistributorReference: WSLG-.25CT-ND; PackageReference: 2512; Category: Resistor
footprint RES 2512/6432 (Chip Resistor, 2-Leads, Body 6.40x3.20mm, IPC High Density)
pins: 1, 2

## 300-125mW-0805-0.1%
designator R?, comment 300
Resistor, 300, 125mW Power Rating, 0805 Package; ManufacturerName: Panasonic Electronic Components; ManufacturerReference: ERA-6AEB301V; InventoryNumber: RES104; Value: 300 Ohm; PowerRating: 125mWatt; Other: 0.1% 25ppm/C; DistributorName: Digikey; DistributorReference: P300DACT-ND; PackageReference: 0805; Category: Resistor
footprint RES 0805/2012 (Chip Resistor, 2-Leads, Body 2.00x1.25mm, IPC Medium Density)
footprint RES 0805/2012 RF (Chip Resistor, 2-Leads, Body 2.00x1.25mm, IPC High Density)
pins: 1, 2

## 300k-125mW-0805-1%
designator R?, comment 300k
Resistor, 300k, 125mW Power Rating, 0805 Package; ManufacturerName: Rohm Semiconductor; ManufacturerReference: MCR10EZHF3003; InventoryNumber: RES059; Value: 300k Ohm; PowerRating: 125mWatt; Other: 1%; DistributorName: Digikey; DistributorReference: RHM300KCTR-ND; PackageReference: 0805; Category: Resistor
footprint RES 0805/2012 (Chip Resistor, 2-Leads, Body 2.00x1.25mm, IPC Medium Density)
footprint RES 0805/2012 RF (Chip Resistor, 2-Leads, Body 2.00x1.25mm, IPC High Density)
pins: 1, 2

## 330-125mW-0805-1%
designator R?, comment 330
Resistor, 330, 125mW Power Rating, 0805 Package; ManufacturerName: Rohm Semiconductor; ManufacturerReference: MCR10EZPF3300; InventoryNumber: RES014; Value: 330 Ohm; PowerRating: 125mWatt; Other: 1%; DistributorName: Digikey; DistributorReference: RHM330CRCT-ND; PackageReference: 0805; Category: Resistor
footprint RES 0805/2012 (Chip Resistor, 2-Leads, Body 2.00x1.25mm, IPC Medium Density)
footprint RES 0805/2012 RF (Chip Resistor, 2-Leads, Body 2.00x1.25mm, IPC High Density)
pins: 1, 2

## 330k-125mW-0805-1%
designator R?, comment 330k
Resistor, 330k, 125mW Power Rating, 0805 Package; ManufacturerName: Yageo; ManufacturerReference: RC0805FR-07330KL; InventoryNumber: RES060; Value: 330k Ohm; PowerRating: 125mWatt; Other: 1%; DistributorName: Digikey; DistributorReference: 311-330KCRCT-ND; PackageReference: 0805; Category: Resistor
footprint RES 0805/2012 (Chip Resistor, 2-Leads, Body 2.00x1.25mm, IPC Medium Density)
footprint RES 0805/2012 RF (Chip Resistor, 2-Leads, Body 2.00x1.25mm, IPC High Density)
pins: 1, 2

## 470-125mW-0805-1%
designator R?, comment 470
Resistor, 470, 125mW Power Rating, 0805 Package; ManufacturerName: Panasonic Electronic Components; ManufacturerReference: ERJ-6ENF4700V; InventoryNumber: RES015; Value: 470 Ohm; PowerRating: 125mWatt; Other: 1%; DistributorName: Digikey; DistributorReference: P470CCT-ND; PackageReference: 0805; Category: Resistor
footprint RES 0805/2012 (Chip Resistor, 2-Leads, Body 2.00x1.25mm, IPC Medium Density)
footprint RES 0805/2012 RF (Chip Resistor, 2-Leads, Body 2.00x1.25mm, IPC High Density)
pins: 1, 2